# Altium schematic symbol library OnSemiconductors.SchLib: 4 symbols
Pins are listed as number, name and electrical type; pins without a type are passive.

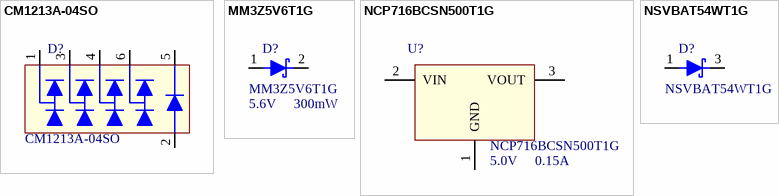
[diagram p0: symbols CM1213A-04SO to NSVBAT54WT1G]

## CM1213A-04SO
designator D?
TVS DIODE 3.3VWM 10VC 4CH SC74; Manufacturer: OnSemiconductor; PartNumber: CM1213A-04SO
footprint TSSOP6 (Footprint not found)
pins: 1, 2, 3, 4, 5, 6

## MM3Z5V6T1G
designator D?  Power: 300mW  Vz: 5.6V  (hidden comment: MM3Z5V6T1G)
Schottky Diode 30V 200mA SOT323; Manufacturer: OnSemiconductor; PartNumber: MM3Z5V6T1G
footprint SOD323 - DIODE UNIDIR (Molded Diode, 2-Leads, Body 2.5x1.3mm, IPC Medium Density)
pins: 1 A, 2 K

## NCP716BCSN500T1G
designator U?  Voltage: 5.0V  Current: 0.15A  (hidden comment: NCP716BCSN500T1G)
IC REG LDO 0.5V 0.15A TSOT23-5; Manufacturer: ON Semiconductor; PartNumber: NCP716BCSN500T1G
footprint SOT23-5 (SOT23, 5-Leads, Body 3.13x2.80mm, Pitch 0.95mm, IPC Medium Density)
pins: 1 GND, 2 VIN, 3 VOUT

## NSVBAT54WT1G
designator D?
Schottky Diode 30V 200mA SOT323; Manufacturer: OnSemiconductor; IF(avg): 0.2A; VR(rms): 30V; Supplier 1: Digi-Key; Supplier 2: Mouser; Supplier Part Number 1: NSVBAT54WT1GOSDKR-ND; Supplier Part Number 2: 863-NSVBAT54WT1G; PartNumber: NSVBAT54WT1G
footprint SOT-323-3
pins: 1 A, 3 K